# Altium footprint library Custom Components.PcbLib: 37 footprints (part 2 of 3)
Each footprint in its own frame and in the unit in brackets; x right, y up, seen from the top. Pads: shape width x height; smd on the part's side, far side on the other; paste and mask are expansions set on the pad; w line width, h text height; cw(c..) or ccw(c..) is an arc to the next point about the centre after c.
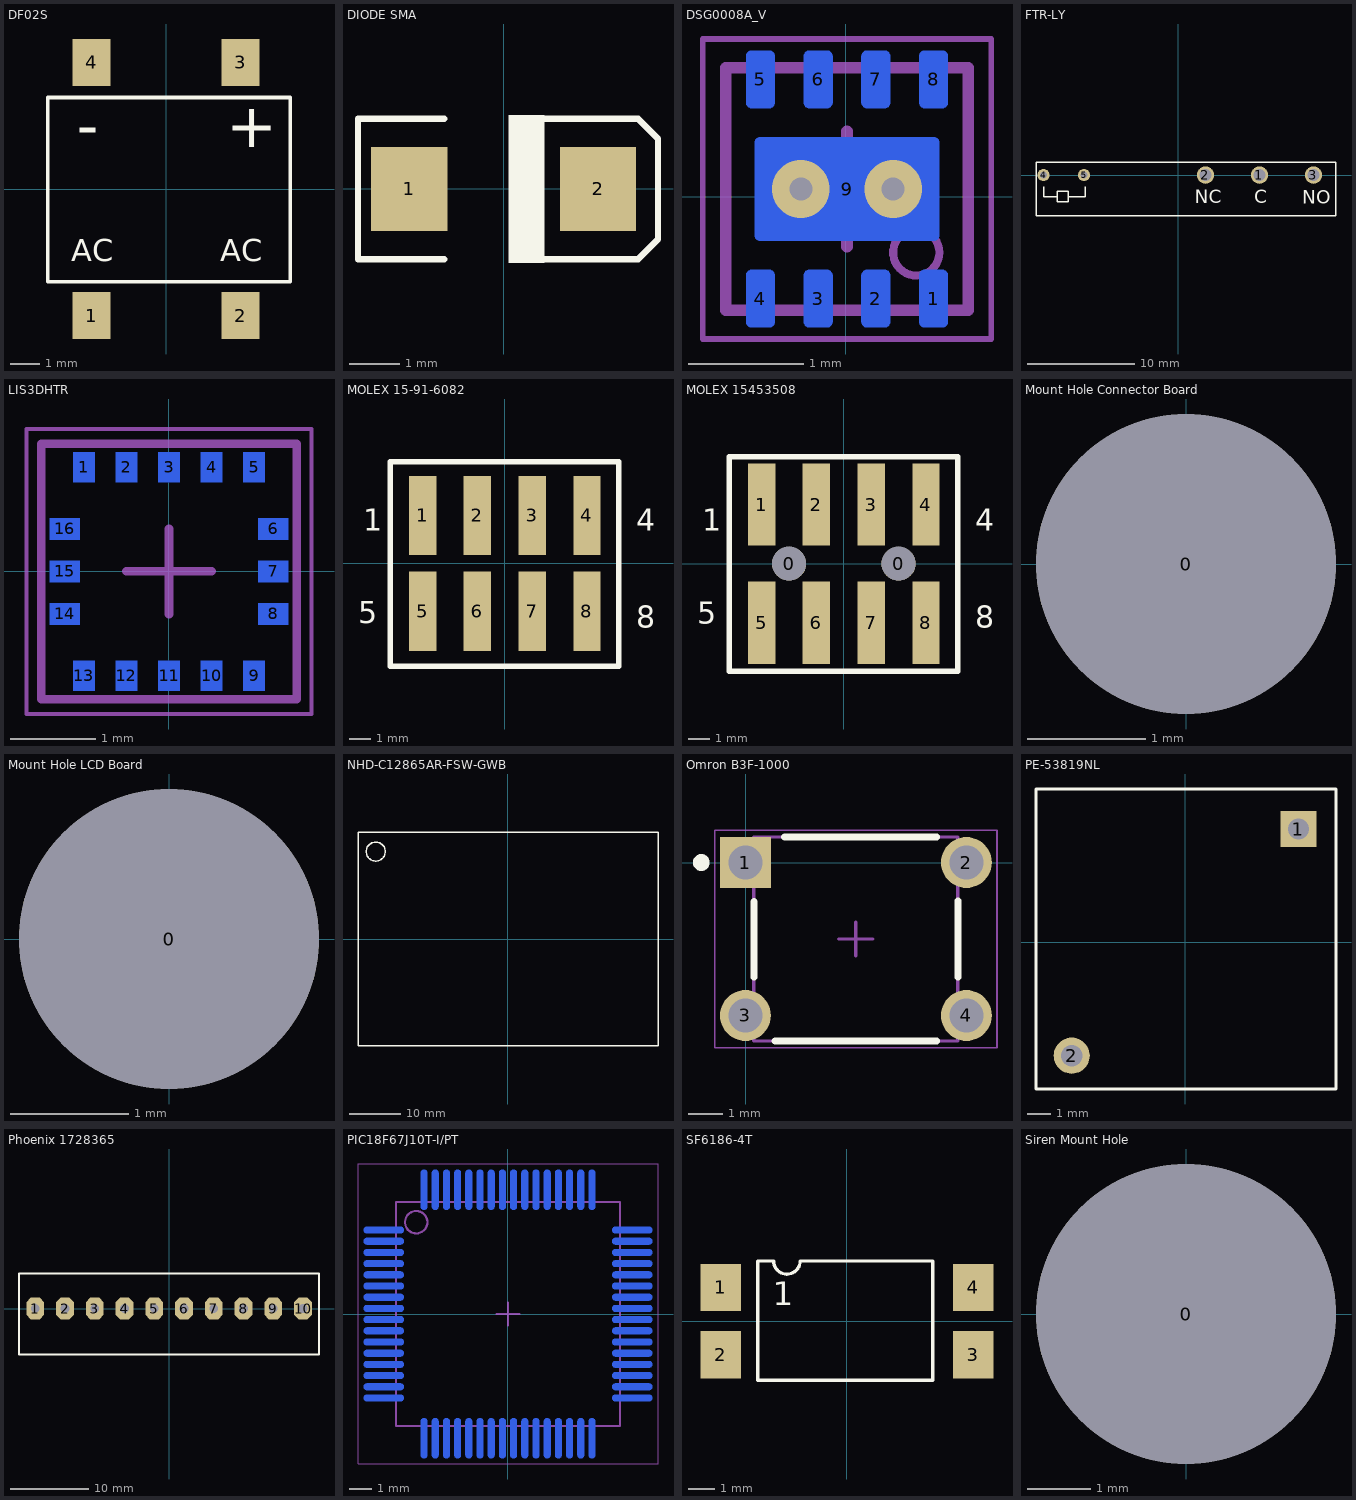
[diagram p1: the footprints below, top view; thin cyan lines are the x and y axes]

## DF02S [mm] "Single Phase Bridge Rectifier"
height 3.8
pads (4):
  rect 1.3x1.6 smd: 1(-2.55,-4.33) 2(2.55,-4.33) 3(2.55,4.33) 4(-2.55,4.33)
Top Overlay:
  lines w0.127: -4.05,-3.17 4.25,-3.17 4.25,3.13 -4.05,3.13 -4.05,-3.17
  text "AC" at 1.85,-2.47 h0.76
  text "AC" at -3.25,-2.47 h0.76
  text "-" at -3.05,1.43 h1.52
  text "+" at 2.05,1.43 h1.52
Top Designator:
  text ".Designator" at -4.344,-0.296 h0.89
3D body: height 3.8, standoff 0.05, extent -4.113,-3.233 4.314,3.194

## DIODE SMA [mm] "DIODE SMA Package"
pads (2):
  rect 1.52x1.68 smd: 1(-1.88,0) 2(1.88,0)
Top Overlay:
  region: 0.813,1.463 0.813,-1.464 0.1,-1.464 0.1,1.463
  lines w0.127: -1.18,-1.4 -2.9,-1.4 -2.9,1.4 -1.18,1.4 ; 0.6,-1.4 2.677,-1.4 3.073,-1.003 3.073,1.003 2.677,1.4 0.6,1.4
Top Designator:
  text ".Designator" at -4.357,-0.296 h0.89
3D body: height 2.4, standoff 0.05, extent -2.28,-1.45 2.32,1.45

## DSG0008A_V [mm]
pads (9):
  rrect40% 0.25x0.5 smd far side: 1(0.762,-0.884) 2(0.262,-0.884) 3(-0.238,-0.884) 4(-0.738,-0.884) 5(-0.738,1.016) 6(-0.238,1.016) 7(0.262,1.016) 8(0.762,1.016)
  rrect11% 1.6x0.9 smd far side paste-0.45: 9(0.012,0.066)
via -0.388,0.066 diameter 0.5 hole 0.2
via 0.412,0.066 diameter 0.5 hole 0.2
Bottom Overlay:
  lines w0.17: -1.138,-1.009 -1.138,-0.834 ; -1.138,0.966 -1.138,1.141 ; 1.162,-1.009 1.162,-0.359 ; 1.162,0.966 1.162,1.141
  text ".Designator" at 1.372,1.74 h0.89
Bottom Paste:
  region: 0.745,-0.361 0.745,0.493 -0.721,0.493 -0.721,-0.361
Top Designator:
  text ".Designator" at -7.516,0.477 h0.89
Mechanical 13:
  circle w0.07: c0.612,-0.484 r0.2
  lines w0.1: -1.038,-0.984 -1.038,1.116 1.062,1.116 1.062,-0.984 -1.038,-0.984
Mechanical 15:
  lines w0.05: -1.238,-1.234 1.262,-1.234 1.262,1.366 -1.238,1.366 -1.238,-1.234
  lines w0.1: -0.488,0.066 0.512,0.066 ; 0.012,-0.434 0.012,0.566
3D body: height 0.8, standoff 0.5, extent 0.413,-0.683 0.811,-0.285
3D body: height 0.8, standoff 0, extent -1.038,-0.984 1.062,1.116

## FTR-LY [mm] "SPDT RELAY 6A SLIM TYPE"
pads (5):
  round 1.627 hole 1.127: 1(7.56,0) 2(2.52,0) 3(12.6,0)
  round 1.127 hole 0.627: 4(-12.6,0) 5(-8.82,0)
Top Overlay:
  lines w0.127: -12.6,-1.1 -12.6,-2 -12.1,-2 -11.3,-2 ; -10.3,-2 -8.7,-2 -8.7,-1.1 ; -11.3,-2 -11.3,-1.5 -10.3,-1.5 -10.3,-1.7 -10.3,-2.5 -11.3,-2.5 -11.3,-2 ; -13.3,-3.8 14.7,-3.8 14.7,1.2 -13.3,1.2 -13.3,-3.8
  text "NC" at 1.496,-2.625 h1.27
  text "NO" at 11.529,-2.695 h1.27
  text "C" at 7.087,-2.611 h1.27
Top Designator:
  text ".Designator" at -13.219,1.761 h0.89
3D body "FTR-LY_Relay_v2.step": height 14.5, standoff -3.5, extent -13.3,-3.8 14.7,1.2

## LIS3DHTR [mm]
pads (16):
  rect 0.25x0.35 smd far side: 1(-1,1.225) 2(-0.5,1.225) 3(0,1.225) 4(0.5,1.225) 5(1,1.225) 9(1,-1.225) 10(0.5,-1.225) 11(0,-1.225) 12(-0.5,-1.225) 13(-1,-1.225)
  rect 0.35x0.25 smd far side: 6(1.225,0.5) 7(1.225,0) 8(1.225,-0.5) 14(-1.225,-0.5) 15(-1.225,0) 16(-1.225,0.5)
Bottom Overlay:
  circle w0.1: c-1.016,1.8 r0.05
  lines w0.2: -1.575,-1.025 -1.575,-1.575 -1.525,-1.575 ; -1.575,1.025 -1.575,1.575 -1.525,1.575 ; 1.525,-1.575 1.575,-1.575 1.575,-1.025 ; 1.525,1.575 1.575,1.575 1.575,1.025
Top Designator:
  text ".Designator" at -2.272,2.142 h0.89
Mechanical 13:
  lines w0.1: -1.5,-1.5 -1.5,1.5 1.5,1.5 1.5,-1.5 -1.5,-1.5
Mechanical 15:
  lines w0.05: -1.675,-1.675 1.675,-1.675 1.675,1.675 -1.675,1.675 -1.675,-1.675
  lines w0.1: -0.5,0 0.5,0 ; 0,-0.5 0,0.5
3D body: height 1, standoff 0, extent -1.5,-1.5 1.5,1.5

## MOLEX 15-91-6082 [mm] "Surface Mount 2 x 4 Header Pins"
pads (8):
  rect 1.27x3.68 smd: 1(-3.81,2.22) 2(-1.27,2.22) 3(1.27,2.22) 4(3.81,2.22) 5(-3.81,-2.22) 6(-1.27,-2.22) 7(1.27,-2.22) 8(3.81,-2.22)
Top Overlay:
  lines w0.254: -5.31,-4.78 5.29,-4.78 5.29,4.72 -5.31,4.72 -5.31,-4.78
  text "1" at -6.556,1.52 h1.02
  text "5" at -6.81,-2.78 h1.02
  text "4" at 6.09,1.52 h1.02
  text "8" at 6.09,-2.98 h1.02
Top Designator:
  text ".Designator" at -5.079,5.089 h0.89
3D body "molex_smt_header.step": height 9.68, standoff 0.03, extent -5.08,-3.62 5.08,3.366

## MOLEX 15453508 [mil] "2.54mm Pitch C-Grid PCB Connector, Surface Mount, High Profile, Dual Row, Vertical, 8 Circuits"
pads (10):
  round 62 hole 62 unplated: 0(-100,0) 0(100,0)
  rect 50x150 smd: 1(-150,108) 2(-50,108) 3(50,108) 4(150,108) 5(-150,-108) 6(-50,-108) 7(50,-108) 8(150,-108)
Top Overlay:
  lines w10: -209.06,-196.19 208.27,-196.19 208.27,195.02 -209.06,195.02 -209.06,-196
  text "1" at -258.11,59.84 h40
  text "5" at -268.11,-109.45 h40
  text "4" at 239.76,59.84 h40
  text "8" at 239.76,-117.32 h40
Top Designator:
  text ".Designator" at -199.94,214.34 h35
3D body "15453508.step": height 100, standoff -370, extent -199.59,-138.69 199.41,127.31

## Mount Hole Connector Board [mm]
pads (1):
  round 2.54 hole 2.54 unplated: 0(0,0)

## Mount Hole LCD Board [mm]
pads (1):
  round 2.54 hole 2.54 unplated: 0(0,0)

## NHD-C12865AR-FSW-GWB [mm] "COG LCD Module"
height 5.9
Top Overlay:
  circle w0.254: c-25.975,17.225 r1.868
  lines w0.254: -29.475,-20.975 29.525,-20.975 29.525,21.025 -29.475,21.025 -29.475,-20.975
Top Designator:
  text ".Designator" at -29.386,21.357 h0.89

## Omron B3F-1000 [mm]
pads (4):
  rect 1.5x1.5 hole 1 paste+0: 1(-0.005,0)
  round 1.5 hole 1 paste+0: 2(6.495,0) 3(-0.005,-4.5) 4(6.495,-4.5)
Top Overlay:
  circle w0.25: c-1.305,0 r0.125
  lines w0.2: 0.245,-3.377 0.245,-1.15 ; 0.867,-5.25 5.623,-5.25 ; 1.145,0.75 5.623,0.75 ; 6.245,-3.377 6.245,-1.123
Mechanical 13:
  lines w0.1: 0.245,-5.25 0.245,0.75 6.245,0.75 6.245,-5.25 0.245,-5.25
Mechanical 15:
  lines w0.05: -0.905,-5.45 -0.905,0.95 7.395,0.95 7.395,-5.45 -0.905,-5.45
  lines w0.1: 2.745,-2.25 3.745,-2.25 ; 3.245,-2.75 3.245,-1.75
3D body "B3F_1000.step": height 4.43, standoff -3.37, extent -0.593,-4.991 7.107,1.009

## PE-53819NL [mm] "INDUCTOR for 12V Regulator"
height 9.52
pads (2):
  rect 1.52x1.52 hole 0.89: 1(4.76,4.76)
  round 1.52 hole 0.89: 2(-4.76,-4.76)
Top Overlay:
  lines w0.127: -6.26,-6.16 6.34,-6.16 6.34,6.44 -6.26,6.44 -6.26,-6.16
Top Designator:
  text ".Designator" at -4.404,-0.156 h0.89
3D body: height 9.52, standoff 0, extent -6.259,-6.159 6.339,6.439

## Phoenix 1728365 [mil] "Phoenix PCB Connector, 1 x 10 pins"
height 374.02
pads (10):
  oct 90x110 hole 45: 1(-675,0) 2(-525,0) 3(-375,0) 4(-225,0) 5(-75,0) 6(75,0) 7(225,0) 8(375,0) 9(525,0) 10(675,0)
Top Overlay:
  lines w10: -757,-230 755.5,-230 755.5,176 -757,176 -757,-230
Top Designator:
  text ".Designator" at -751.94,197.34 h35
3D body "pxc_1728365_05_SMKDS-1-10-3-81_3D.stp": height 373.94, standoff -137.8, extent -750.12,-224.41 749.88,169.3

## PIC18F67J10T-I/PT [mm]
pads (64):
  oval 0.3x1.8 smd far side: 1(-3.75,5.55) 2(-3.25,5.55) 3(-2.75,5.55) 4(-2.25,5.55) 5(-1.75,5.55) 6(-1.25,5.55) 7(-0.75,5.55) 8(-0.25,5.55) 9(0.25,5.55) 10(0.75,5.55) 11(1.25,5.55) 12(1.75,5.55) 13(2.25,5.55) 14(2.75,5.55) 15(3.25,5.55) 16(3.75,5.55) 33(3.75,-5.55) 34(3.25,-5.55) 35(2.75,-5.55) 36(2.25,-5.55) 37(1.75,-5.55) 38(1.25,-5.55) 39(0.75,-5.55) 40(0.25,-5.55) 41(-0.25,-5.55) 42(-0.75,-5.55) 43(-1.25,-5.55) 44(-1.75,-5.55) 45(-2.25,-5.55) 46(-2.75,-5.55) 47(-3.25,-5.55) 48(-3.75,-5.55)
  oval 1.8x0.3 smd far side: 17(5.55,3.75) 18(5.55,3.25) 19(5.55,2.75) 20(5.55,2.25) 21(5.55,1.75) 22(5.55,1.25) 23(5.55,0.75) 24(5.55,0.25) 25(5.55,-0.25) 26(5.55,-0.75) 27(5.55,-1.25) 28(5.55,-1.75) 29(5.55,-2.25) 30(5.55,-2.75) 31(5.55,-3.25) 32(5.55,-3.75) 49(-5.55,-3.75) 50(-5.55,-3.25) 51(-5.55,-2.75) 52(-5.55,-2.25) 53(-5.55,-1.75) 54(-5.55,-1.25) 55(-5.55,-0.75) 56(-5.55,-0.25) 57(-5.55,0.25) 58(-5.55,0.75) 59(-5.55,1.25) 60(-5.55,1.75) 61(-5.55,2.25) 62(-5.55,2.75) 63(-5.55,3.25) 64(-5.55,3.75)
Bottom Overlay:
  circle w0.25: c-4.45,5.55 r0.125
  circle w0.6: c-3.25,3.25 r0.3
  lines w0.2: -4.25,-4.25 4.25,-4.25 4.25,4.25 -4.25,4.25 -4.25,-4.25
Top Designator:
  text ".Designator" at -4.444,-0.296 h0.89
Mechanical 13:
  circle w0.1: c-4.1,4.1 r0.5
  lines w0.1: -5,-5 5,-5 5,5 -5,5 -5,-5
Mechanical 15:
  lines w0.05: -6.7,-6.7 6.7,-6.7 6.7,6.7 -6.7,6.7 -6.7,-6.7
  lines w0.1: -0.5,0 0.5,0 ; 0,-0.5 0,0.5
3D body: height 1.6, standoff 0, extent -5,-5 5,5

## SF6186-4T [mm] "Opto Isolator"
pads (4):
  rect 1.52x1.78 smd: 1(-4.765,1.27) 2(-4.765,-1.27) 3(4.765,-1.27) 4(4.765,1.27)
Top Overlay:
  lines w0.127: -2.765,2.27 ccw(c-2.265,2.27) -2.265,1.77 ccw(c-2.265,2.27) -1.765,2.27 ; -2.765,2.27 -2.765,2.27 ; -2.765,2.27 -3.365,2.27 -3.365,-2.23 3.235,-2.23 3.235,2.27 -1.765,2.27 ; -1.765,2.27 -1.765,2.27
  text "1" at -2.8,0.6 h0.89
Top Designator:
  text ".Designator" at -4.444,-0.276 h0.89

## Siren Mount Hole [mil]
pads (1):
  round 187 hole 187 unplated: 0(0,0)
Top Designator:
  text ".Designator" at -174.94,-11.66 h35